# EAGLE library part LCD2X16B (library JLB6_Display)
LCD display 80x36mm
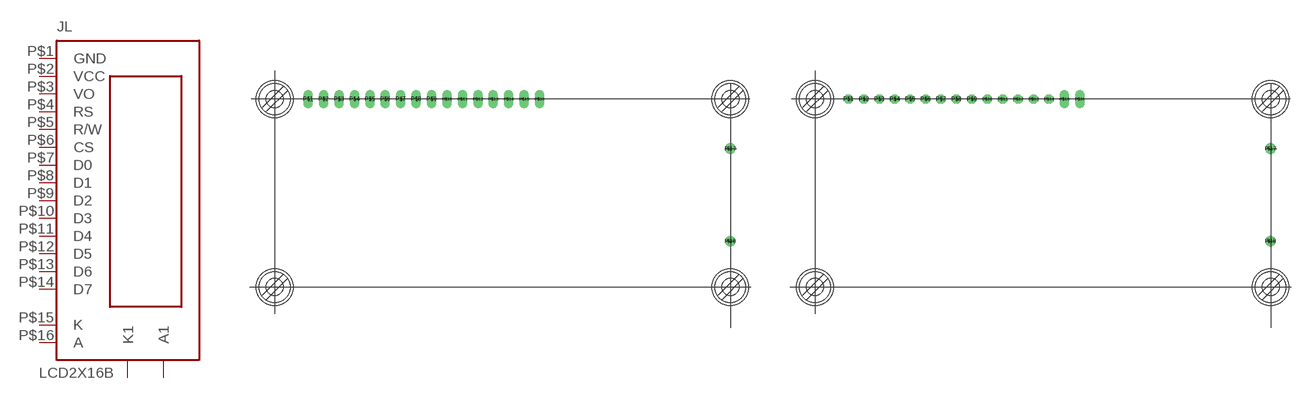
[diagram p0: symbol with the pads of LC8036B; footprints LC8036B, LCD8036B-R]

Designator prefix JL

## LCD2X16BOBLONG  [LC8036B]
P$1  GND  pwr
P$2  VCC  pwr
P$3  VO  in
P$4  RS  in
P$5  R/W  in
P$6  CS  in
P$7  D0
P$8  D1
P$9  D2
P$10  D3
P$11  D4
P$12  D5
P$13  D6
P$14  D7
P$15  K  in
P$16  A  in
P$17  K1  in
P$18  A1  in

## LCD2X16B  [LCD8036B-R]
Pads as for LC8036B

## Footprint LC8036B (pad centres in mm)
drill 0.813 pad 1.524 long: P$1 1.905,27.178; P$2 4.445,27.178; P$3 6.985,27.178; P$4 9.525,27.178; P$5 12.065,27.178; P$6 14.605,27.178; P$7 17.145,27.178; P$8 19.685,27.178; P$9 22.225,27.178; P$10 24.765,27.178; P$11 27.305,27.178; P$12 29.845,27.178; P$13 32.385,27.178; P$14 34.925,27.178; P$15 37.465,27.178; P$16 40.005,27.178
drill 0.813 pad 1.778: P$17 71.399,18.999; P$18 71.399,3.759
hole 2.794 at -3.607,27.178
hole 2.794 at 71.399,27.178
hole 2.794 at 71.399,-3.81
hole 2.794 at -3.607,-3.81

## Footprint LCD8036B-R (pad centres in mm)
drill 0.813 pad 1.524 octagon: P$1 -19.05,0; P$2 -16.51,0; P$3 -13.97,0; P$4 -11.43,0; P$5 -8.89,0; P$6 -6.35,0; P$7 -3.81,0; P$8 -1.27,0; P$9 1.27,0; P$10 3.81,0; P$11 6.35,0; P$12 8.89,0; P$13 11.43,0; P$14 13.97,0
drill 0.813 pad 1.524 long: P$15 16.51,0; P$16 19.05,0
drill 0.813 pad 1.778: P$17 50.444,-8.179; P$18 50.444,-23.419
hole 2.794 at -24.562,0
hole 2.794 at 50.444,0
hole 2.794 at 50.444,-30.988
hole 2.794 at -24.562,-30.988